# Altium integrated library phoenix-2pos.IntLib: 1 symbol
Pins are listed as number, name and electrical type; pins without a type are passive.

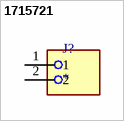
[diagram p0: symbol 1715721]

## 1715721
designator J?
MP: 1715721; Package: None; Price: None; Value: *; Availability: Unavailable
footprint PHOENIX_1715721
pins: 1, 2